# EAGLE library part EADIPS082 (library ea)
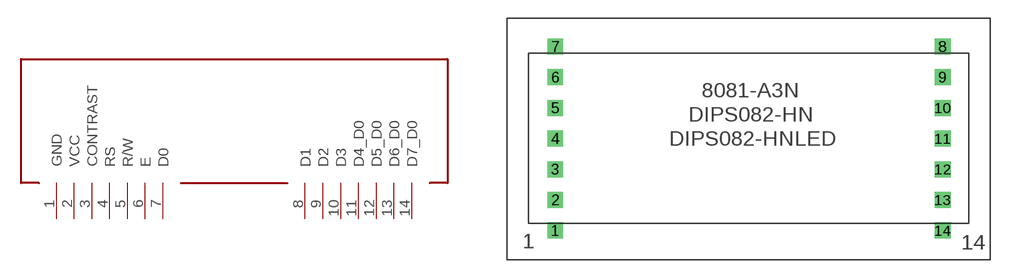
[diagram p0: symbol with the pads of EADIPS082; footprint EADIPS082]

Designator prefix -

## EADIPS082  [EADIPS082]
1  GND
2  VCC
3  CONTRAST
4  RS
5  R/W
6  E
7  D0
8  D1
9  D2
10  D3
11  D4_D0
12  D5_D0
13  D6_D0
14  D7_D0

## Footprint EADIPS082 (pad centres in mm)
drill 0.813 square: 1 0,0; 2 0,2.54; 3 0,5.08; 4 0,7.62; 5 0,10.16; 6 0,12.7; 7 0,15.24; 8 32.05,15.24; 9 32.05,12.7; 10 32.05,10.16; 11 32.05,7.62; 12 32.05,5.08; 13 32.05,2.54; 14 32.05,0